# Altium schematic symbol library MAG3110FCR1.SchLib: 1 symbol
Pins are listed as number, name and electrical type; pins without a type are passive.

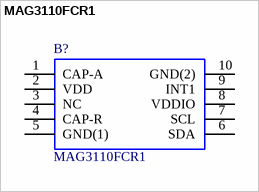
[diagram p0: symbol MAG3110FCR1]

## MAG3110FCR1
designator B?
Freescale MAG3110FCR1, Transducer Hall Effect Sensor IC 10-Pin DFN, 1.95  3.6 V; Manufacturer_Name: Nexperia; Geometry.Height: 0.9mm; Supplier_Name: RS; RS Part Number: 7500835; Manufacturer_Part_Number: MAG3110FCR1; Allied_Number: *; Other Part Number: *; Datasheet Link: http://uk.rs-online.com/web/p/products/7500835; 3D Package: *
footprint SON40P200X200X90-10N
pins: 1 CAP-A, 2 VDD, 3 NC, 4 CAP-R, 5 GND(1), 6 SDA, 7 SCL, 8 VDDIO, 9 INT1, 10 GND(2)